# Altium schematic symbol library Regulator.SchLib: 6 symbols
Pins are listed as number, name and electrical type; pins without a type are passive.

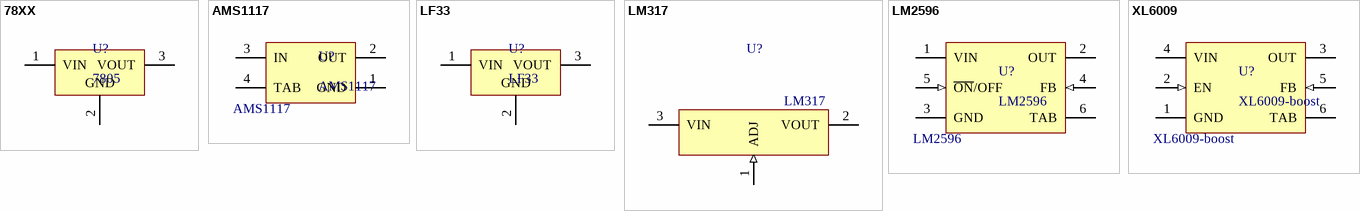
[diagram p0: symbols 78XX to XL6009]

## 78XX
designator U?, comment 7805
VOLT: 30; VALUE: 7805
footprint TO-252
footprint TO-263
footprint TO-3R
footprint TO-92
footprint TO220
footprint TO220 Right
pins: 1 VIN (power), 2 GND (power), 3 VOUT (power)

## AMS1117
designator U?
VOLT: 5; VALUE: AMS1117
footprint SOT-223
pins: 1 GND (power), 2 OUT (power), 3 IN (power), 4 TAB (power)

## LF33
designator U?
VOLT: 30; VALUE: LF33
footprint TO-252
footprint TO-263
footprint TO220
footprint TO220 Right
pins: 1 VIN (power), 2 GND (power), 3 VOUT (power)

## LM317
designator U?
VOLT: 30; VALUE: LM317
footprint TO220 Right
footprint TO220
pins: 1 ADJ (in), 2 VOUT (power), 3 VIN (power)

## LM2596
designator U?
VOLT: 30; VALUE: LM2596
footprint TO-263 - 5 - DIP
footprint TO-263 - 5 - SMD
pins: 1 VIN (power), 2 OUT (power), 3 GND (power), 4 FB (in), 5 ~{ON}/OFF (in), 6 TAB (power)

## XL6009
designator U?, comment XL6009-boost
VOLT: 5-24; parm: boost-5-24->7-30; VALUE: XL6009-boost
footprint TO-263 - 5 - SMD
pins: 1 GND (power), 2 EN (in), 3 OUT (power), 4 VIN (power), 5 FB (in), 6 TAB (power)